# EAGLE library part AUXDAQ_REV2 (library wiring)
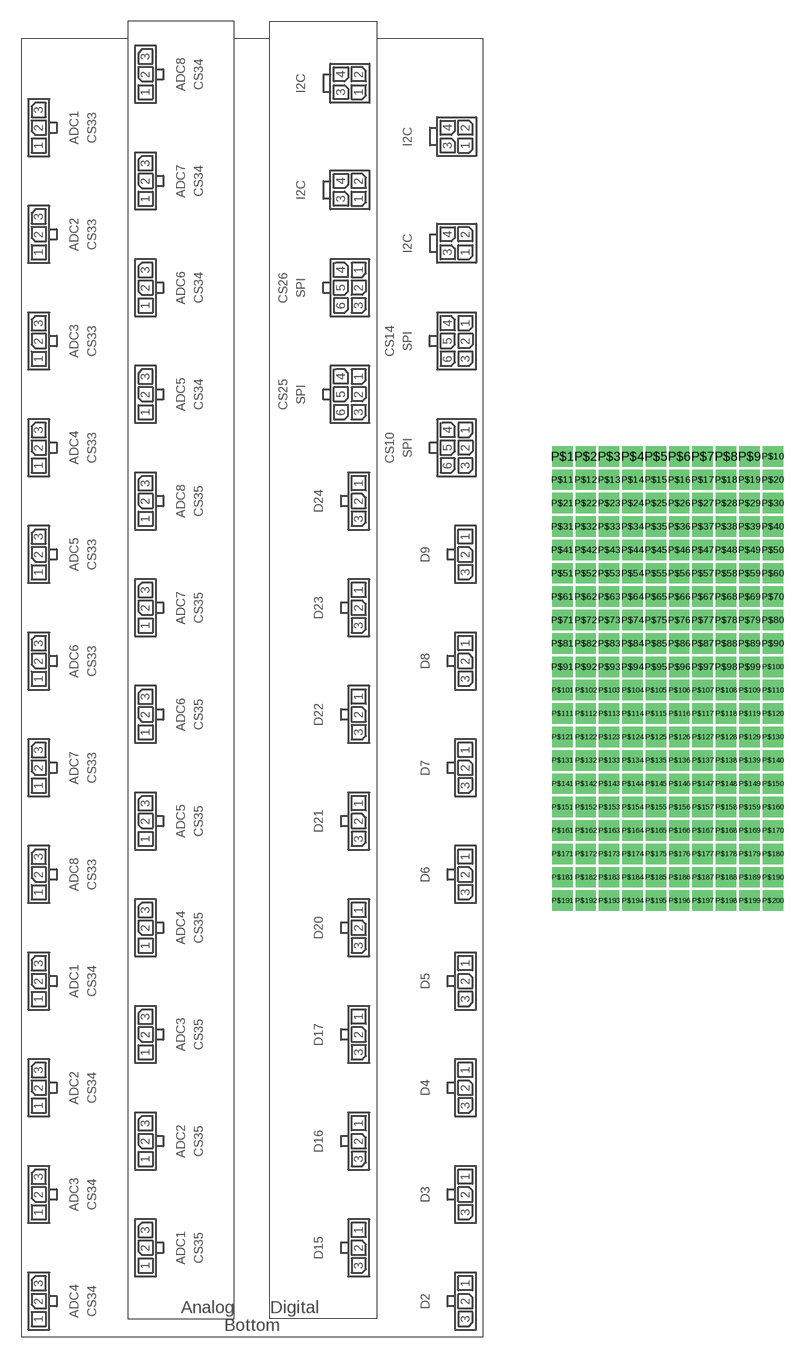
[diagram p3: symbol with the pads of PINS_200; footprint PINS_200]

Designator prefix -

## AUXDAQ_REV2  [PINS_200]
P$1  P$1
P$2  P$2
P$3  P$3
P$4  P$4
P$5  P$5
P$6  P$6
P$7  P$7
P$8  P$8
P$9  P$9
P$10  P$10
P$11  P$11
P$12  P$12
P$13  P$13
P$14  P$14
P$15  P$15
P$16  P$16
P$17  P$17
P$18  P$18
P$19  P$19
P$20  P$20
P$21  P$21
P$22  P$22
P$23  P$23
P$24  P$24
P$25  P$25
P$26  P$26
P$27  P$27
P$28  P$28
P$29  P$29
P$30  P$30
P$31  P$31
P$32  P$32
P$33  P$33
P$34  P$34
P$35  P$35
P$36  P$36
P$37  P$37
P$38  P$38
P$39  P$39
P$40  P$40
P$41  P$41
P$42  P$42
P$43  P$43
P$44  P$44
P$45  P$45
P$46  P$46
P$47  P$47
P$48  P$48
P$49  P$49
P$50  P$50
P$51  P$51
P$52  P$52
P$53  P$53
P$54  P$54
P$55  P$55
P$56  P$56
P$57  P$57
P$58  P$58
P$59  P$59
P$60  P$60
P$61  P$61
P$62  P$62
P$63  P$63
P$64  P$64
P$65  P$65
P$66  P$66
P$67  P$67
P$68  P$68
P$69  P$69
P$70  P$70
P$71  P$71
P$72  P$72
P$73  P$73
P$74  P$74
P$75  P$75
P$76  P$76
P$77  P$77
P$78  P$78
P$79  P$79
P$80  P$80
P$81  P$81
P$82  P$82
P$83  P$83
P$84  P$84
P$85  P$85
P$86  P$86
P$87  P$87
P$88  P$88
P$89  P$89
P$90  P$90
P$91  P$91
P$92  P$92
P$93  P$93
P$94  P$94
P$95  P$95
P$96  P$96
P$97  P$97
P$98  P$98
P$99  P$99
P$100  P$100
P$101  P$101
P$102  P$102
P$103  P$103
P$104  P$104
P$105  P$105
P$106  P$106
P$107  P$107
P$108  P$108
P$109  P$109
P$110  P$110
P$111  P$111
P$112  P$112
P$113  P$113
P$114  P$114
P$115  P$115
P$116  P$116
P$117  P$117
P$118  P$118
P$119  P$119
P$120  P$120
P$121  P$121
P$122  P$122
P$123  P$123
P$124  P$124
P$125  P$125
P$126  P$126
P$127  P$127
P$128  P$128
P$129  P$129
P$130  P$130
P$131  P$131
P$132  P$132
P$133  P$133
P$134  P$134
P$135  P$135
P$136  P$136
P$137  P$137
P$138  P$138
P$139  P$139
P$140  P$140
P$141  P$141
P$142  P$142
P$143  P$143
P$144  P$144
P$145  P$145
P$146  P$146
P$147  P$147
P$148  P$148
P$149  P$149
P$150  P$150
P$151  P$151
P$152  P$152
P$153  P$153
P$154  P$154
P$155  P$155
P$156  P$156
P$157  P$157
P$158  P$158
P$159  P$159
P$160  P$160

## Footprint PINS_200 (pad centres in mm)
drill 0.6 square: P$1 0,0; P$2 1.27,0; P$3 2.54,0; P$4 3.81,0; P$5 5.08,0; P$6 6.35,0; P$7 7.62,0; P$8 8.89,0; P$9 10.16,0; P$10 11.43,0; P$11 0,-1.27; P$12 1.27,-1.27; P$13 2.54,-1.27; P$14 3.81,-1.27; P$15 5.08,-1.27; P$16 6.35,-1.27; P$17 7.62,-1.27; P$18 8.89,-1.27; P$19 10.16,-1.27; P$20 11.43,-1.27; P$21 0,-2.54; P$22 1.27,-2.54; P$23 2.54,-2.54; P$24 3.81,-2.54; P$25 5.08,-2.54; P$26 6.35,-2.54; P$27 7.62,-2.54; P$28 8.89,-2.54; P$29 10.16,-2.54; P$30 11.43,-2.54; P$31 0,-3.81; P$32 1.27,-3.81; P$33 2.54,-3.81; P$34 3.81,-3.81; P$35 5.08,-3.81; P$36 6.35,-3.81; P$37 7.62,-3.81; P$38 8.89,-3.81; P$39 10.16,-3.81; P$40 11.43,-3.81; P$41 0,-5.08; P$42 1.27,-5.08; P$43 2.54,-5.08; P$44 3.81,-5.08; P$45 5.08,-5.08; P$46 6.35,-5.08; P$47 7.62,-5.08; P$48 8.89,-5.08; P$49 10.16,-5.08; P$50 11.43,-5.08; P$51 0,-6.35; P$52 1.27,-6.35; P$53 2.54,-6.35; P$54 3.81,-6.35; P$55 5.08,-6.35; P$56 6.35,-6.35; P$57 7.62,-6.35; P$58 8.89,-6.35; P$59 10.16,-6.35; P$60 11.43,-6.35; P$61 0,-7.62; P$62 1.27,-7.62; P$63 2.54,-7.62; P$64 3.81,-7.62; P$65 5.08,-7.62; P$66 6.35,-7.62; P$67 7.62,-7.62; P$68 8.89,-7.62; P$69 10.16,-7.62; P$70 11.43,-7.62; P$71 0,-8.89; P$72 1.27,-8.89; P$73 2.54,-8.89; P$74 3.81,-8.89; P$75 5.08,-8.89; P$76 6.35,-8.89; P$77 7.62,-8.89; P$78 8.89,-8.89; P$79 10.16,-8.89; P$80 11.43,-8.89; P$81 0,-10.16; P$82 1.27,-10.16; P$83 2.54,-10.16; P$84 3.81,-10.16; P$85 5.08,-10.16; P$86 6.35,-10.16; P$87 7.62,-10.16; P$88 8.89,-10.16; P$89 10.16,-10.16; P$90 11.43,-10.16; P$91 0,-11.43; P$92 1.27,-11.43; P$93 2.54,-11.43; P$94 3.81,-11.43; P$95 5.08,-11.43; P$96 6.35,-11.43; P$97 7.62,-11.43; P$98 8.89,-11.43; P$99 10.16,-11.43; P$100 11.43,-11.43; P$101 0,-12.7; P$102 1.27,-12.7; P$103 2.54,-12.7; P$104 3.81,-12.7; P$105 5.08,-12.7; P$106 6.35,-12.7; P$107 7.62,-12.7; P$108 8.89,-12.7; P$109 10.16,-12.7; P$110 11.43,-12.7; P$111 0,-13.97; P$112 1.27,-13.97; P$113 2.54,-13.97; P$114 3.81,-13.97; P$115 5.08,-13.97; P$116 6.35,-13.97; P$117 7.62,-13.97; P$118 8.89,-13.97; P$119 10.16,-13.97; P$120 11.43,-13.97; P$121 0,-15.24; P$122 1.27,-15.24; P$123 2.54,-15.24; P$124 3.81,-15.24; P$125 5.08,-15.24; P$126 6.35,-15.24; P$127 7.62,-15.24; P$128 8.89,-15.24; P$129 10.16,-15.24; P$130 11.43,-15.24; P$131 0,-16.51; P$132 1.27,-16.51; P$133 2.54,-16.51; P$134 3.81,-16.51; P$135 5.08,-16.51; P$136 6.35,-16.51; P$137 7.62,-16.51; P$138 8.89,-16.51; P$139 10.16,-16.51; P$140 11.43,-16.51; P$141 0,-17.78; P$142 1.27,-17.78; P$143 2.54,-17.78; P$144 3.81,-17.78; P$145 5.08,-17.78; P$146 6.35,-17.78; P$147 7.62,-17.78; P$148 8.89,-17.78; P$149 10.16,-17.78; P$150 11.43,-17.78; P$151 0,-19.05; P$152 1.27,-19.05; P$153 2.54,-19.05; P$154 3.81,-19.05; P$155 5.08,-19.05; P$156 6.35,-19.05; P$157 7.62,-19.05; P$158 8.89,-19.05; P$159 10.16,-19.05; P$160 11.43,-19.05; P$161 0,-20.32; P$162 1.27,-20.32; P$163 2.54,-20.32; P$164 3.81,-20.32; P$165 5.08,-20.32; P$166 6.35,-20.32; P$167 7.62,-20.32; P$168 8.89,-20.32; P$169 10.16,-20.32; P$170 11.43,-20.32; P$171 0,-21.59; P$172 1.27,-21.59; P$173 2.54,-21.59; P$174 3.81,-21.59; P$175 5.08,-21.59; P$176 6.35,-21.59; P$177 7.62,-21.59; P$178 8.89,-21.59; P$179 10.16,-21.59; P$180 11.43,-21.59; P$181 0,-22.86; P$182 1.27,-22.86; P$183 2.54,-22.86; P$184 3.81,-22.86; P$185 5.08,-22.86; P$186 6.35,-22.86; P$187 7.62,-22.86; P$188 8.89,-22.86; P$189 10.16,-22.86; P$190 11.43,-22.86; P$191 0,-24.13; P$192 1.27,-24.13; P$193 2.54,-24.13; P$194 3.81,-24.13; P$195 5.08,-24.13; P$196 6.35,-24.13; P$197 7.62,-24.13; P$198 8.89,-24.13; P$199 10.16,-24.13; P$200 11.43,-24.13